# Altium footprint library РМПЕ Р-3.PcbLib: 1 footprints
Each footprint in its own frame and in the unit in brackets; x right, y up, seen from the top. Pads: shape width x height; smd on the part's side, far side on the other; paste and mask are expansions set on the pad; w line width, h text height; cw(c..) or ccw(c..) is an arc to the next point about the centre after c.
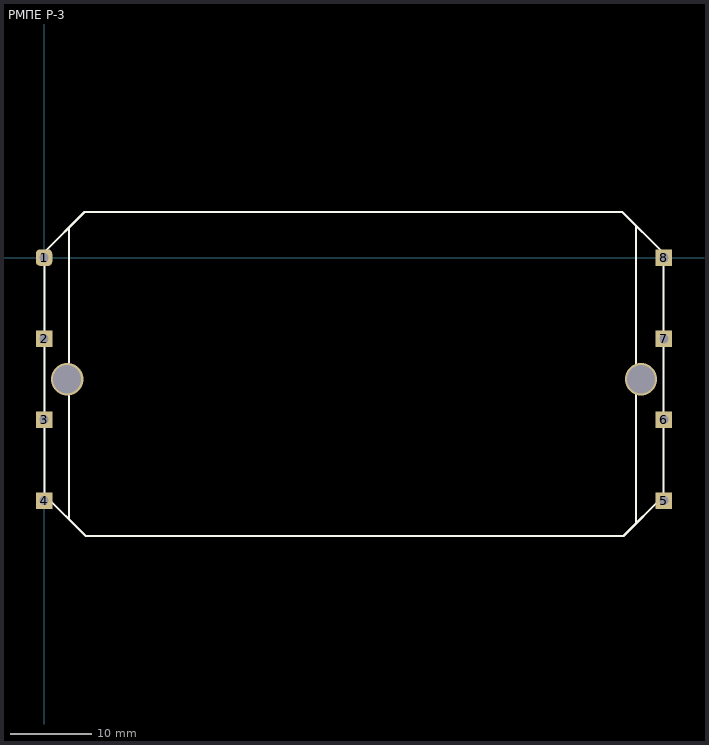
[diagram p0: the footprint, top view; thin cyan lines are the x and y axes]

## РМПЕ Р-3 [mil]
pads (8):
  rrect50% 80x80 hole 45: 1(0,0)
  rect 80x80 hole 45: 2(0,-393.7) 3(0,-787.4) 4(0,-1181.1) 5(3013.66,-1181.1) 6(3013.66,-787.4) 7(3013.66,-393.7) 8(3013.66,0)
via 111.85,-590.55 diameter 157.48 hole 137.8
via 2901.85,-590.55 diameter 157.48 hole 137.8
Top Overlay:
  lines w10: 121.85,-1273.15 121.85,146.85 ; 2876.85,-1288.15 2876.85,156.85 ; 1.85,-1153.15 201.85,-1353.15 2816.85,-1353.15 3011.85,-1158.15 3011.85,21.85 2811.85,221.85 196.85,221.85 1.85,26.85 1.85,-1153.15
3D body: height 551.18, standoff 0, extent 121.85,-1353.15 2876.85,221.85
3D body: height 78.74, standoff 0, extent 1.85,-1273.15 121.85,146.85
3D body: height 78.74, standoff 0, extent 2876.85,-1293.15 3011.85,156.85